# Altium footprint library Components - 05.08.25 - 13.31.PcbLib: 1 footprints
Each footprint in its own frame and in the unit in brackets; x right, y up, seen from the top. Pads: shape width x height; smd on the part's side, far side on the other; paste and mask are expansions set on the pad; w line width, h text height; cw(c..) or ccw(c..) is an arc to the next point about the centre after c.
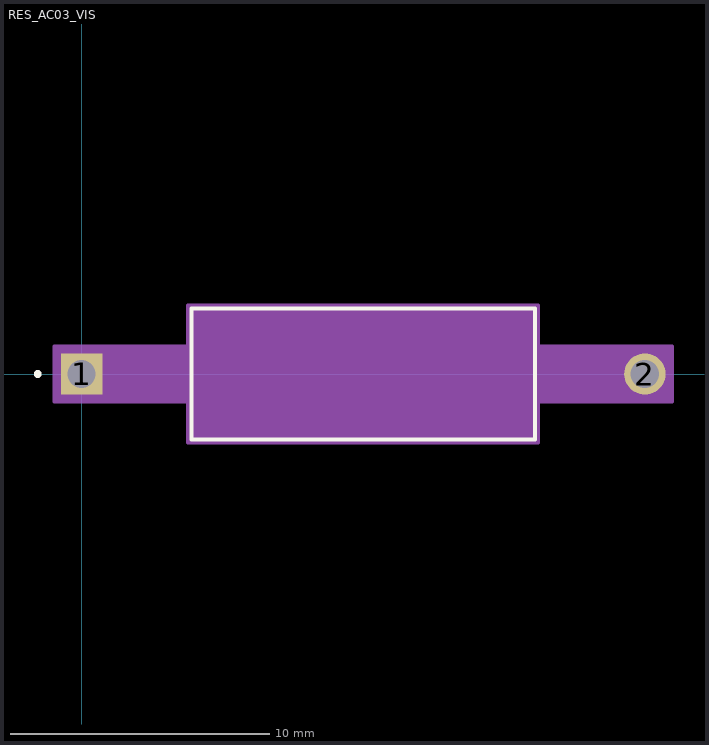
[diagram p0: the footprint, top view; thin cyan lines are the x and y axes]

## RES_AC03_VIS [mil]
pads (2):
  rect 63x63 / inner round 60 / far side rect 63x63 hole 43 paste-99999 mask+0: 1(0,0)
  round 63 / inner round 60 / far side round 63 hole 43 paste-99999 mask+0: 2(856,0)
Top Overlay:
  circle w6: c-66.5,0 r3
  lines w6: 167,-99.5 167,99.5 689,99.5 689,-99.5 167,-99.5
Mechanical 13:
  circle w0: c182,0 r3
  lines w1: 0,0 172,0 ; 684,0 856,0 ; 172,-94.5 172,94.5 684,94.5 684,-94.5 172,-94.5
Mechanical 15:
  region: 162,-41.5 -41.5,-41.5 -41.5,41.5 162,41.5 162,104.5 694,104.5 694,41.5 897.5,41.5 897.5,-41.5 694,-41.5 694,-104.5 162,-104.5
  lines w6: -41.5,-41.5 162,-41.5 162,-104.5 694,-104.5 694,-41.5 897.5,-41.5 897.5,41.5 694,41.5 694,104.5 162,104.5 162,41.5 -41.5,41.5 -41.5,-41.5
3D body "RES_AC03_VIS.step": height 189.06, standoff -100, extent -16.5,-94.6 872.52,94.6